# Altium footprint library TE_6-146134-3.PcbLib: 1 footprints
Each footprint in its own frame and in the unit in brackets; x right, y up, seen from the top. Pads: shape width x height; smd on the part's side, far side on the other; paste and mask are expansions set on the pad; w line width, h text height; cw(c..) or ccw(c..) is an arc to the next point about the centre after c.
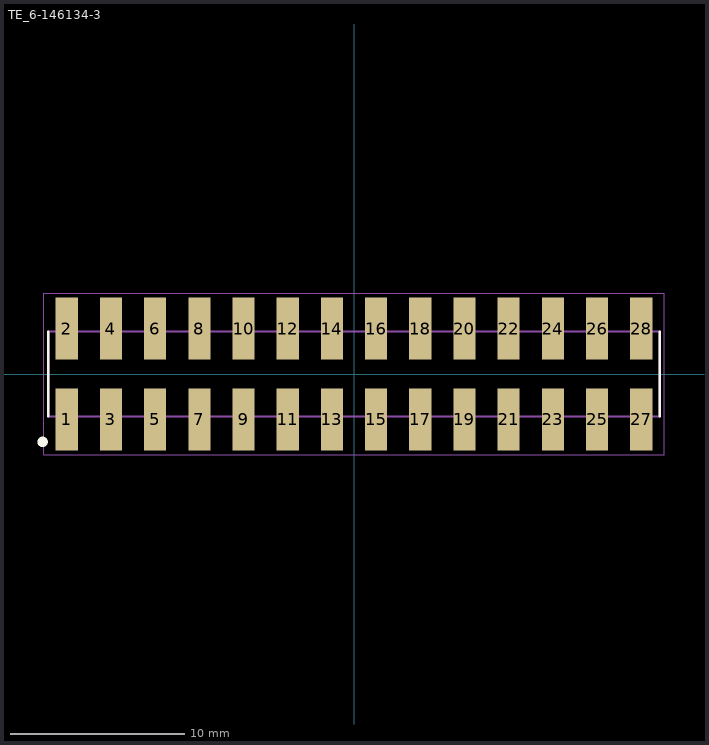
[diagram p0: the footprint, top view; thin cyan lines are the x and y axes]

## TE_6-146134-3 [mm]
pads (28):
  rect 1.27x3.56 smd: 1(-16.51,-2.605) 2(-16.51,2.605) 3(-13.97,-2.605) 4(-13.97,2.605) 5(-11.43,-2.605) 6(-11.43,2.605) 7(-8.89,-2.605) 8(-8.89,2.605) 9(-6.35,-2.605) 10(-6.35,2.605) 11(-3.81,-2.605) 12(-3.81,2.605) 13(-1.27,-2.605) 14(-1.27,2.605) 15(1.27,-2.605) 16(1.27,2.605) 17(3.81,-2.605) 18(3.81,2.605) 19(6.35,-2.605) 20(6.35,2.605) 21(8.89,-2.605) 22(8.89,2.605) 23(11.43,-2.605) 24(11.43,2.605) 25(13.97,-2.605) 26(13.97,2.605) 27(16.51,-2.605) 28(16.51,2.605)
Top Overlay:
  circle w0.4: c-17.9,-3.9 r0.1
  lines w0.127: -17.575,-2.44 -17.575,2.44 ; 17.575,-2.44 17.575,2.44
Mechanical 13:
  circle w0.4: c-16.6,-1.7 r0.1
  lines w0.127: -17.575,-2.44 17.575,-2.44 17.575,2.44 -17.575,2.44 -17.575,-2.44
Mechanical 15:
  lines w0.05: -17.825,-4.635 17.825,-4.635 17.825,4.635 -17.825,4.635 -17.825,-4.635